# Altium footprint library BQ24232HRGTR.PcbLib: 1 footprints
Each footprint in its own frame and in the unit in brackets; x right, y up, seen from the top. Pads: shape width x height; smd on the part's side, far side on the other; paste and mask are expansions set on the pad; w line width, h text height; cw(c..) or ccw(c..) is an arc to the next point about the centre after c.
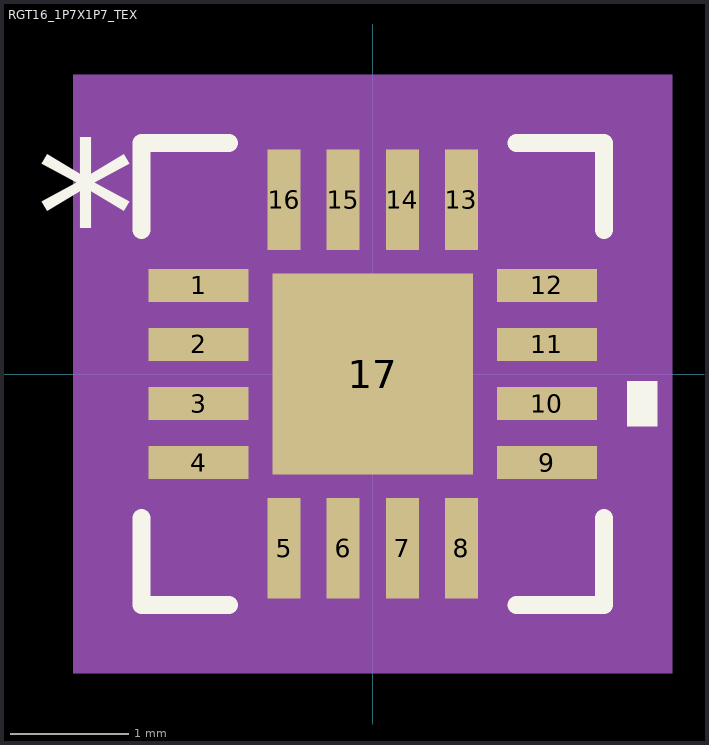
[diagram p0: the footprint, top view; thin cyan lines are the x and y axes]

## RGT16_1P7X1P7_TEX [mm]
pads (17):
  rect 0.85x0.28 smd paste-0.412 mask+0: 1(-1.475,0.75) 2(-1.475,0.25) 3(-1.475,-0.25) 4(-1.475,-0.75) 9(1.475,-0.75) 10(1.475,-0.25) 11(1.475,0.25) 12(1.475,0.75)
  rect 0.28x0.85 smd paste-0.412 mask+0: 5(-0.75,-1.475) 6(-0.25,-1.475) 7(0.25,-1.475) 8(0.75,-1.475) 13(0.75,1.475) 14(0.25,1.475) 15(-0.25,1.475) 16(-0.75,1.475)
  rect 1.7x1.7 smd paste-0.837 mask-0.838: 17(0,0)
Top Overlay:
  region: 2.154,-0.059 2.408,-0.059 2.408,-0.44 2.154,-0.44
  lines w0.152: -1.956,-1.218 -1.956,-1.956 -1.218,-1.956 ; -1.956,1.218 -1.956,1.956 -1.218,1.956 ; 1.218,-1.956 1.956,-1.956 1.956,-1.218 ; 1.218,1.956 1.956,1.956 1.956,1.218
  text "*" at -2.852,0.746 h1.27
Top Paste:
  region: -0.494,0.775 -0.775,0.775 -0.775,0.494 -0.635,0.494 -0.494,0.635
  region: -0.635,0.294 -0.775,0.294 -0.775,-0.294 -0.635,-0.294 -0.494,-0.152 -0.494,0.152
  region: -0.635,-0.494 -0.775,-0.494 -0.775,-0.775 -0.494,-0.775 -0.494,-0.635
  region: 0.294,0.775 -0.294,0.775 -0.294,0.635 -0.152,0.494 0.152,0.494 0.294,0.635
  region: 0.152,0.294 -0.152,0.294 -0.294,0.152 -0.294,-0.152 -0.152,-0.294 0.152,-0.294 0.294,-0.152 0.294,0.152
  region: 0.152,-0.494 -0.152,-0.494 -0.294,-0.635 -0.294,-0.775 0.294,-0.775 0.294,-0.635
  region: 0.775,0.775 0.494,0.775 0.494,0.635 0.635,0.494 0.775,0.494
  region: 0.775,0.294 0.635,0.294 0.494,0.152 0.494,-0.152 0.635,-0.294 0.775,-0.294
  region: 0.775,-0.494 0.635,-0.494 0.494,-0.635 0.494,-0.775 0.775,-0.775
Top Solder:
  region: -0.914,0.594 -0.914,0.914 0.914,0.914 0.914,0.594
  region: -0.914,-0.194 -0.914,0.194 0.914,0.194 0.914,-0.194
  region: -0.914,-0.914 -0.914,-0.594 0.914,-0.594 0.914,-0.914
  region: -0.914,-0.914 -0.914,0.914 -0.594,0.914 -0.594,-0.914
  region: 0.194,-0.914 0.194,0.914 -0.194,0.914 -0.194,-0.914
  region: 0.594,-0.914 0.594,0.914 0.914,0.914 0.914,-0.914
Mechanical 5:
  region: 2.535,-2.535 -2.535,-2.535 -2.535,2.535 2.535,2.535
Mechanical 13:
  lines w0.025: -1.575,0.305 -0.305,1.575 ; -1.575,-1.575 1.575,-1.575 1.575,1.575 -1.575,1.575 -1.575,-1.575
  text "*" at -1.114,0.365 h1.27
Mechanical 15:
  region: -1.144,-1.829 -1.829,-1.829 -1.829,-1.144 -2.154,-1.144 -2.154,1.144 -1.829,1.144 -1.829,1.829 -1.144,1.829 -1.144,2.154 1.144,2.154 1.144,1.829 1.829,1.829 1.829,1.144 2.154,1.144 2.154,-1.144 1.829,-1.144 1.829,-1.829 1.144,-1.829 1.144,-2.154 -1.144,-2.154
  lines w0.152: -2.154,-1.144 -1.829,-1.144 -1.829,-1.829 -1.144,-1.829 -1.144,-2.154 1.144,-2.154 1.144,-1.829 1.829,-1.829 1.829,-1.144 2.154,-1.144 2.154,1.144 1.829,1.144 1.829,1.829 1.144,1.829 1.144,2.154 -1.144,2.154 -1.144,1.829 -1.829,1.829 -1.829,1.144 -2.154,1.144 -2.154,-1.144
Via Holes:
  circle w0.127: c-0.394,-0.394 r0.191
  circle w0.127: c-0.394,0.394 r0.191
  circle w0.127: c0.394,-0.394 r0.191
  circle w0.127: c0.394,0.394 r0.191
3D body "RGT16_1P7X1P7_TEX.step": height 1, standoff 0, extent -1.626,-1.626 1.626,1.626